# Altium schematic symbol library afra.SchLib: 135 symbols (part 2 of 4)
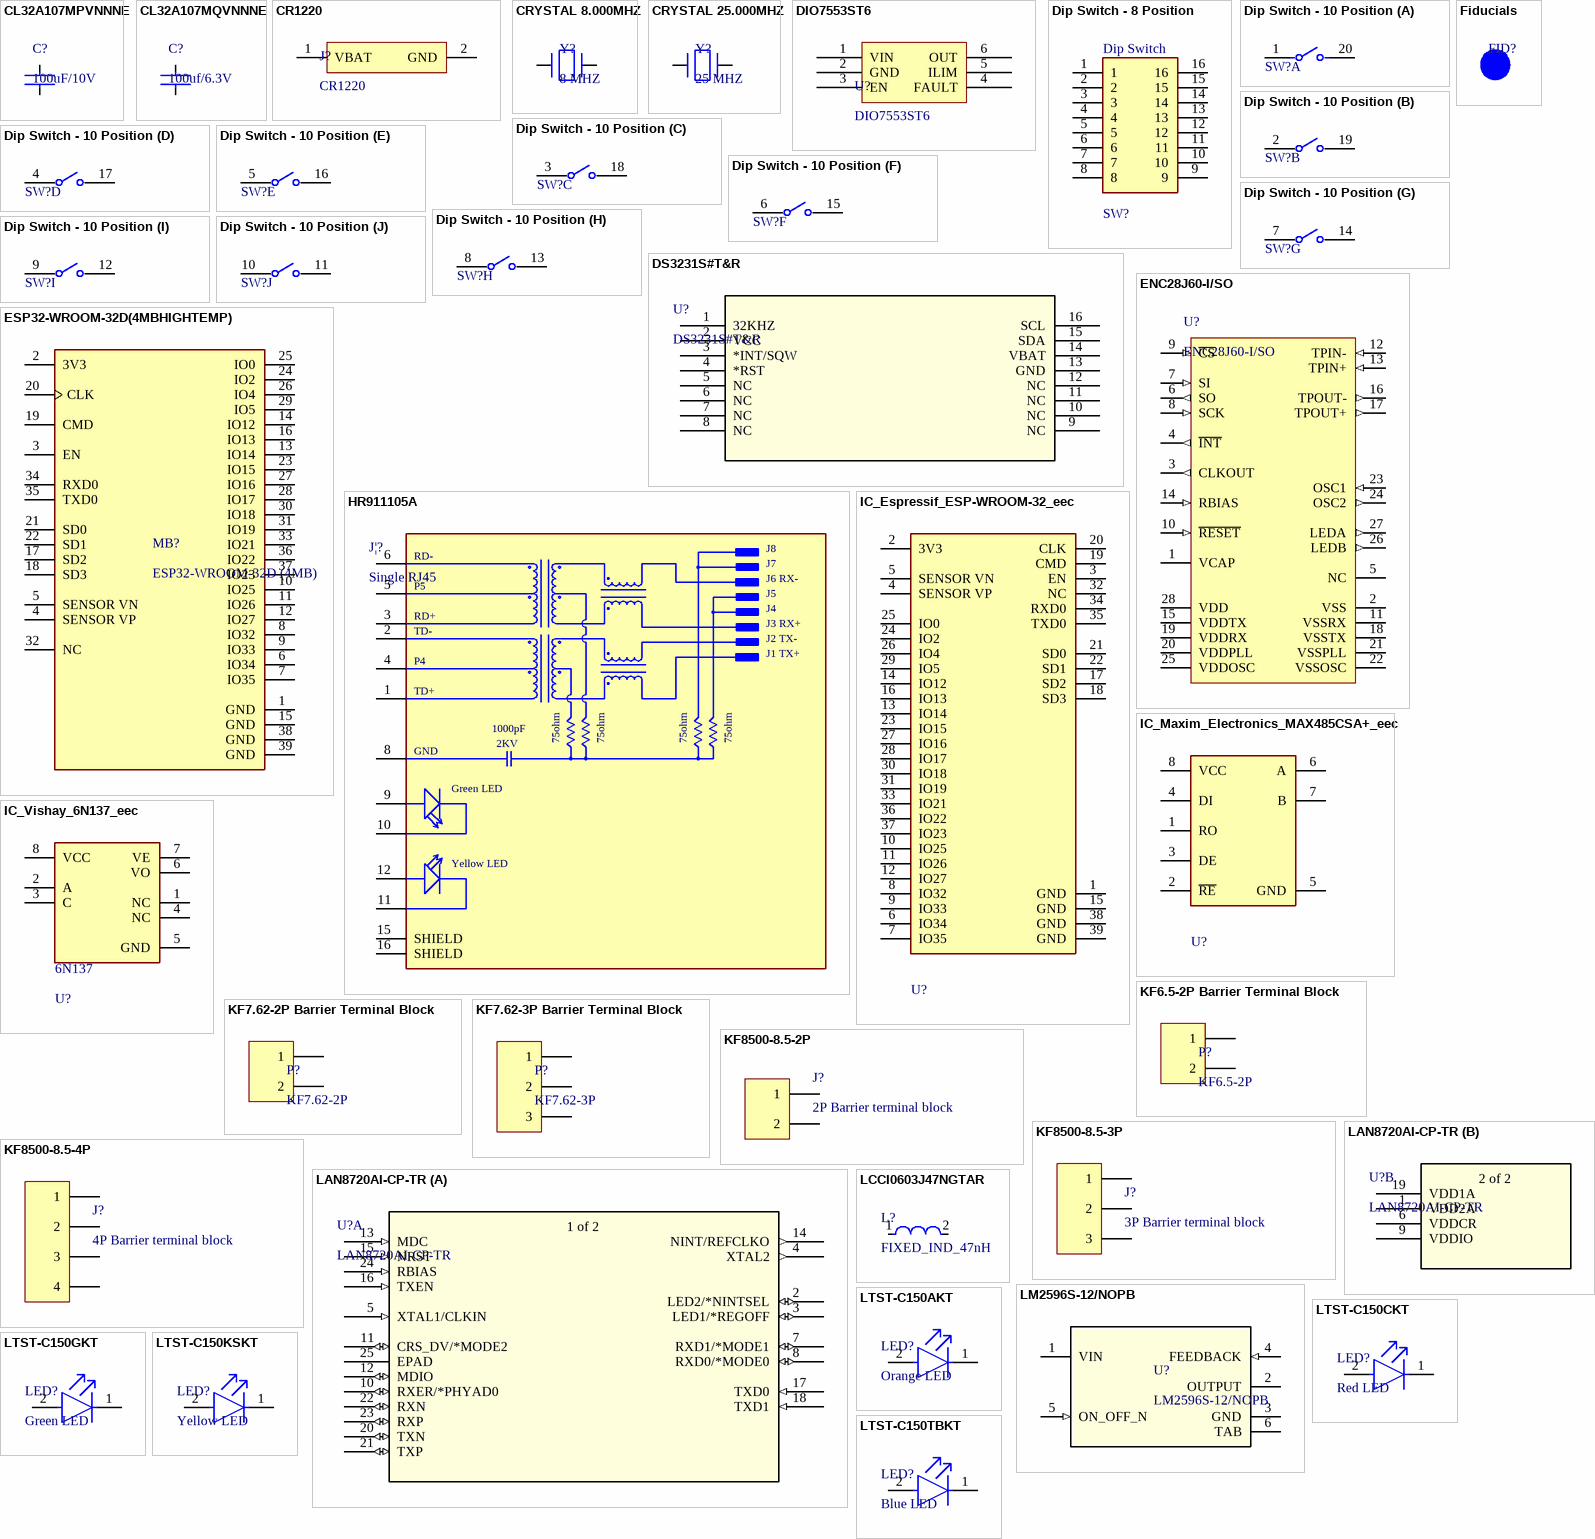
[diagram p5: symbols CL32A107MPVNNNE to LTST-C150TBKT]

## CRYSTAL 25.000MHZ
designator Y?, comment 25 MHZ
CRYSTAL 25.000MHZ 20PF THRU; Manufacturer: TXC; Manufacturer Part Number: 9B-8.000MBBK-B; Frequency Stability: 50ppm; Frequency: 8MHz; ESR (Equivalent Series Resistance): 80R; Supplier 1: Digi-Key; RoHS: Yes; Category: Crystals; Pricing 1: 1000=0.16000 (USD); Mount: Through Hole; Case/Package: Metal; Min Operating Temperature: -20°C; Max Operating Temperature: 70°C; Package Quantity: 1000; Frequency Tolerance: 50ppm; Load Capacitance: 20pF; Packaging: Bulk; Length: 0.453inch; Width: 0.197inch; Height: 0.145inch; ComponentLink1URL: https://datasheet.ciiva.com/6733/9b-6733750.pdf?src-supplier=Digi-Key; ComponentLink1Description: https://datasheet.ciiva.com/6733/9b-6733750.pdf?src-supplier=Digi-Key; ComponentLink2URL: https://datasheet.ciiva.com/29631/9b-29631174.pdf?src-supplier=Digi-Key; ComponentLink2Description: https://datasheet.ciiva.com/29631/9b-29631174.pdf?src-supplier=Digi-Key; Supplier Part Number 1: 887-2033-ND
footprint CTS_ATS080B_0
pins: 1, 2

## DIO7553ST6
designator U?
USB Power Switch
footprint SOT23-6
pins: 1 VIN, 2 GND, 3 EN, 4 FAULT, 5 ILIM, 6 OUT

## Dip Switch - 8 Position
designator SW?, comment Dip Switch
SWITCH ROCKER DIP SPST 150MA 30V, Dip Switch SPST Position Through Hole Rocker Actuator 150mA 30VDC; Supplier 1: Digi-Key; Supplier Part Number 1: GH7176-ND
footprint Dip Switch - 8 Position
pins: 1, 2, 3, 4, 5, 6, 7, 8, 9, 10, 11, 12, 13, 14, 15, 16

## Dip Switch - 10 Position
designator SW?, comment Dip Switch  (value not drawn)
SWITCH SLIDE DIP SPST 100MA 24V, Dip Switch SPST Position Through Hole Slide (Standard) Actuator 100mA 24VDC; Supplier 1: Digi-Key; Supplier Part Number 1: 1825360-6-ND
footprint Dip Switch - 10 Position
part A pins: 1, 20
part B pins: 2, 19
part C pins: 3, 18
part D pins: 4, 17
part E pins: 5, 16
part F pins: 6, 15
part G pins: 7, 14
part H pins: 8, 13
part I pins: 9, 12
part J pins: 10, 11

## DS3231S#T&R
designator U?
No Description Available; Mfr_Name: Maxim Integrated Products; Copyright: Copyright (C) 2022 Ultra Librarian. All rights reserved.; Manufacturer_Part_Number: DS3231S#T&R; RefDes: RefDes; Type: DEV
footprint 21-0042B_16_MXM
pins: 1 32KHZ, 2 VCC (power), 3 *INT/SQW, 4 *RST, 5 NC, 6 NC, 7 NC, 8 NC, 9 NC, 10 NC, 11 NC, 12 NC, 13 GND (power), 14 VBAT (power), 15 SDA, 16 SCL

## ENC28J60-I/SO
designator U?
Stand-Alone Ethernet Controller with SPI Interface, 28-Pin SOIC, Industrial Temperature; ComponentLink1Description: Manufacturer URL; ComponentLink2Description: Datasheet; DatasheetVersion: revC, Jan-2008; ComponentLink3URL: http://www.microchip.com/stellent/groups/techpub_sg/documents/packagingspec/en012702.pdf; ComponentLink3Description: Package Specification; ComponentLink1URL: http://www.microchip.com/; Code_JEDEC: MS-013; RevisionNote: URLs added.; PackageVersion: revBB, Aug-2009; PackageDescription: 28-Lead Plastic Small Outline (SO) - Wide 7.50mm Body [SOIC]; ComponentLink2URL: http://ww1.microchip.com/downloads/en/DeviceDoc/39662c.pdf; PackageReference: SOIC-SO28; PartNumber: ENC28J60-I/SO; Supplier 1: RSComponents; Supplier Part Number 1: 6988987
footprint SOIC-SO28_N
footprint SOIC-SO28_M (SOIC, 28-Leads, Body 17.9x7.5mm, Pitch 1.27mm, IPC Low Density)
footprint SOIC-SO28_L
pins: 1 VCAP (power), 2 VSS (power), 3 CLKOUT (out), 4 ~{INT} (out), 5 NC, 6 SO (out), 7 SI (in), 8 SCK (in), 9 ~{CS} (in), 10 ~{RESET} (in), 11 VSSRX (power), 12 TPIN- (in), 13 TPIN+ (in), 14 RBIAS (in), 15 VDDTX (power), 16 TPOUT- (out), 17 TPOUT+ (out), 18 VSSTX (power), 19 VDDRX (power), 20 VDDPLL (power), 21 VSSPLL (power), 22 VSSOSC (power), 23 OSC1 (in), 24 OSC2 (out), 25 VDDOSC (power), 26 LEDB (out), 27 LEDA (out), 28 VDD (power)

## ESP32-WROOM-32D(4MBHIGHTEMP)
designator MB?, comment ESP32-WROOM-32D (4MB)
Bluetooth, WiFi 802.11b/g/n, Bluetooth v4.2 +EDR, Class 1, 2 and 3 Transceiver Module 2.4GHz ~ 2.5GHz Integrated, Trace Surface Mount; Manufacturer: Espressif Systems; Manufacturer Part Number: ESP32-WROOM-32D(4MBHIGHTEMP); RoHS: No; Supplier 1: DigiKey; Supplier 2: Digi-Key; Supplier Part Number 1: 1965-ESP32-WROOM-32D(4MBHIGHTEMP)DKR-ND
footprint Espressif_Systems_0_MFG
pins: 1 GND, 2 3V3, 3 EN, 4 SENSOR VP, 5 SENSOR VN, 6 IO34, 7 IO35, 8 IO32, 9 IO33, 10 IO25, 11 IO26, 12 IO27, 13 IO14, 14 IO12, 15 GND, 16 IO13, 17 SD2, 18 SD3, 19 CMD, 20 CLK, 21 SD0, 22 SD1, 23 IO15, 24 IO2, 25 IO0, 26 IO4, 27 IO16, 28 IO17, 29 IO5, 30 IO18, 31 IO19, 32 NC, 33 IO21, 34 RXD0, 35 TXD0, 36 IO22, 37 IO23, 38 GND, 39 GND

## Fiducials
designator FID?, comment Fiducial marker  (value not drawn)

## HR911105A
designator J|?, comment Single RJ45
HR911105A Ethernet Interface Arduino Platform Evaluation Expansion Board; MF: DFRobot; Package: None; Availability: Unavailable; MP: HR911105A; Value: *; SnapEDA_Link: https://www.snapeda.com/parts/HR911105A/DFRobot/view-part/214807/?ref=snap; Price: None
footprint HANRUN_HR911105A
pins: 1 TD+, 2 TD-, 3 RD+, 4 P4, 5 P5, 6 RD-, 8 GND (power), 9 GA, 10 GC, 11 YC, 12 YA, 15 SHIELD, 16 SHIELD
text: J8; J7; J6 RX-; J5; J4; J3 RX+; J2 TX-; J1 TX+; 1000pF; 75ohm; 2KV; Green LED; Yellow LED

## IC_Espressif_ESP-WROOM-32_eec
designator U?, comment BLE/WIFI Module  (value not drawn)
IC SPRESSIF ESP32 BLUETOOTH WIFI Module; Manufacturer: Espressif; Part Number: ESP-WROOM-32; helpURL: https://upverter.com/upn/revision/247263e65b82b491/; ComponentLink2Description: Datasheet; Temperature: -40°C to +85°C; Package: MOD_SMT; Supplier 2: Mouser; Supplier 1: Digi-Key; ComponentLink1URL: https://upverter.com/upn/revision/247263e65b82b491/; Supplier Part Number 2: 485-3320; Supplier Part Number 1: 1188-1178-ND; ComponentLink1Description: Upverter; ComponentLink2URL: http://www.espressif.com/sites/default/files/documentation/esp-wroom-32_datasheet_en.pdf; RoHS: TRUE; Mouser Part Number: 485-3320; Temperature Range High: +85°C; Digikey Description: IC SPRESSIF ESP32 BLUETOOTH WIFI M; Digikey Part Number: 1188-1178-ND; Lead Free: yes; Temperature Range Low: -40°C
footprint Espressif_ESP-WROOM-32_0
pins: 1 GND, 2 3V3, 3 EN, 4 SENSOR VP, 5 SENSOR VN, 6 IO34, 7 IO35, 8 IO32, 9 IO33, 10 IO25, 11 IO26, 12 IO27, 13 IO14, 14 IO12, 15 GND, 16 IO13, 17 SD2, 18 SD3, 19 CMD, 20 CLK, 21 SD0, 22 SD1, 23 IO15, 24 IO2, 25 IO0, 26 IO4, 27 IO16, 28 IO17, 29 IO5, 30 IO18, 31 IO19, 32 NC, 33 IO21, 34 RXD0, 35 TXD0, 36 IO22, 37 IO23, 38 GND, 39 GND

## IC_Maxim_Electronics_MAX485CSA+_eec
designator U?, comment MAX485CSA+  (value not drawn)
IC TXRX RS485/RS422 LOWPWR 8SOIC; Manufacturer: Maxim Electronics; helpURL: https://upverter.com/upn/revision/9b9ac8077ab5223f/; ComponentLink2Description: Datasheet; Temperature: 0°C to +70°C; Package: SO8; Supplier 2: Mouser; Supplier 1: Digi-Key; ComponentLink1URL: https://upverter.com/upn/revision/9b9ac8077ab5223f/; Supplier Part Number 2: 700-MAX485CSA; Supplier Part Number 1: MAX485CSA+-ND; ComponentLink1Description: Upverter; ComponentLink2URL: https://datasheets.maximintegrated.com/en/ds/MAX1487-MAX491.pdf; RoHS: TRUE; Mouser Part Number: 700-MAX485CSA; Ipc Land Pattern Name: SOIC127P600X155-8; Temperature Range High: +70°C; Digikey Description: IC TXRX RS485/RS422 LOWPWR 8SOIC; Digikey Part Number: MAX485CSA+-ND; Lead Free: yes; Temperature Range Low: 0°C; Part Number: MAX485CSA+
footprint SOIC-8 (SOIC, 8-Leads, Body 4.9x3.9mm, Pitch 1.27mm, IPC Low Density)
pins: 1 RO, 2 ~{RE}, 3 DE, 4 DI, 5 GND, 6 A, 7 B, 8 VCC

## IC_Vishay_6N137_eec
designator U?  Part Number: 6N137
IC OPTOISO 5.3KV 1CH OPN DRAIN 8DIP; Manufacturer: Vishay; helpURL: https://upverter.com/upn/revision/90ff24e5d1aaa85f/; ComponentLink2Description: Datasheet; Temperature: -40°C to +100°C; Package: DIP8; Supplier 2: Mouser; Price: 1.00620280459; Supplier 1: Digi-Key; ComponentLink1URL: https://upverter.com/upn/revision/90ff24e5d1aaa85f/; Supplier Part Number 2: 782-6N137; Supplier Part Number 1: 751-1262-5-ND; ComponentLink1Description: Upverter; ComponentLink2URL: http://www.vishay.com/docs/84732/6n137.pdf; RoHS: TRUE; Mouser Part Number: 782-6N137; Ipc Land Pattern Name: DIP762W50P254L1016H425Q8; Temperature Range High: +100°C; Digikey Description: IC OPTOISO 5.3KV 1CH OPN DRAIN 8DIP; Digikey Part Number: 751-1262-5-ND; Lead Free: yes; Temperature Range Low: -40°C
footprint DIP_08
pins: 1 NC, 2 A, 3 C, 4 NC, 5 GND, 6 VO, 7 VE, 8 VCC

## KF6.5-2P Barrier Terminal Block
designator P?, comment KF6.5-2P
KF6.5 2P  Barrier Terminal Block, 11mm spacing barrier terminals with side expandable slot. The terminal accepts wire gauge of 22~12AWG. Connectors are available black PA66 material.
footprint KF6.5 2P 11mm
pins: 1, 2

## KF7.62-2P Barrier Terminal Block
designator P?, comment KF7.62-2P
KF7.62-2P Barrier Terminal Block, 7.62mm spacing barrier terminals with side expandable slot. The terminal accepts wire gauge of 22~12AWG. Connectors are available black PA66 material.
footprint KF7.62-2P Barrier Terminal Block
pins: 1, 2

## KF7.62-3P Barrier Terminal Block
designator P?, comment KF7.62-3P
KF7.62-3P Barrier Terminal Block, 7.62mm spacing barrier terminals with side expandable slot. The terminal accepts wire gauge of 22~12AWG. Connectors are available black PA66 material.
footprint KF7.62-3P Barrier Terminal Block
pins: 1, 2, 3

## KF8500-8.5-2P
designator J?, comment 2P Barrier terminal block
24A -40℃~+105℃ 450V Black Corner pin Double - Walled(Double) 12~22 Straight pin 2 1 8.5mm 2.5 P=8.5mm Barrier Terminal Blocks ROHS; Manufacturer: CiXi KaiFeng Electronics; Manufacturer Part Number: KF8500-8.5-2P; Supplier 1: LCSC; RoHS: No; Category: Uncategorized; Supplier Part Number 1: C707833
footprint KF8500-2P
pins: 1, 2

## KF8500-8.5-3P
designator J?, comment 3P Barrier terminal block
24A -40℃~+105℃ 450V Black Corner pin Double - Walled(Double) 12~22 Straight pin 3 1 8.5mm 2.5 P=8.5mm Barrier Terminal Blocks ROHS; Manufacturer: CiXi KaiFeng Electronics; Manufacturer Part Number: KF8500-8.5-3P; Supplier 1: LCSC; RoHS: No; Category: Uncategorized; Supplier Part Number 1: C707834
footprint KF8500-3P
pins: 1, 2, 3

## KF8500-8.5-4P
designator J?, comment 4P Barrier terminal block
24A -40℃~+105℃ 450V Black Corner pin Double - Walled(Double) 12~22 Straight pin 4 1 8.5mm 2.5 P=8.5mm Barrier Terminal Blocks ROHS; Manufacturer: CiXi KaiFeng Electronics; Manufacturer Part Number: KF8500-8.5-4P; Supplier 1: LCSC; RoHS: No; Category: Uncategorized; Supplier Part Number 1: C707835
footprint KF8500-4P
pins: 1, 2, 3, 4

## LAN8720AI-CP-TR
designator U?
No Description Available; Mfr_Name: Microchip; Copyright: Copyright (C) 2022 Ultra Librarian. All rights reserved.; Manufacturer_Part_Number: LAN8720AI-CP-TR; RefDes: RefDes; Type: DEV
footprint QFN24-6X6_MC_MCH
part A pins: 2 LED2/*NINTSEL (io), 3 LED1/*REGOFF (io), 4 XTAL2 (out), 5 XTAL1/CLKIN (in), 7 RXD1/*MODE1 (io), 8 RXD0/*MODE0 (io), 10 RXER/*PHYAD0 (io), 11 CRS_DV/*MODE2 (io), 12 MDIO (io), 13 MDC (in), 14 NINT/REFCLKO (out), 15 NRST (in), 16 TXEN (in), 17 TXD0 (in), 18 TXD1 (in), 20 TXN (io), 21 TXP (io), 22 RXN (io), 23 RXP (io), 24 RBIAS (in), 25 EPAD
part B pins: 1 VDD2A (power), 6 VDDCR (power), 9 VDDIO (power), 19 VDD1A (power)
part A text: 1 of 2
part B text: 2 of 2

## LCCI0603J47NGTAR
designator L?, comment FIXED_IND_47nH
FIXED IND 47NH 500MA 700 MOHM, Unshielded Multilayer Inductor 700mOhm Max 0603 (1608 Metric) -; Manufacturer: Kyocera AVX; Manufacturer Part Number: LCCI0603J47NGTAR; RoHS: Yes; Stock 1: 4000; Pricing 1: 1=0.10000, 10=0.07600, 25=0.06760, 50=0.05740, 100=0.05070, 250=0.04648, 500=0.04224, 1000=0.03549 (USD); Supplier 1: DigiKey; Supplier 2: Digi-Key; Supplier Part Number 1: 478-LCCI0603J47NGTARCT-ND; Supplier Part Number 2: 478-LCCI0603J47NGTARCT-ND
footprint 1206_Inductor
pins: 1, 2

## LM2596S-12/NOPB
designator U?
No Description Available; Mfr_Name: Texas Instruments; PartNumber: LM2596SX-ADJ/NOPB; Alternate_PartNumber: LM2596S-ADJ/NOPB; CompType: IC; Type: DEV; RefDes: RefDes; Copyright: Copyright (C) 2022 Ultra Librarian. All rights reserved.; Manufacturer_Part_Number: LM2596S-12/NOPB; PackageReference: KTT0005B; MountType: SMT; RoHS: Y; Manufacturer: Texas Instruments
footprint KTT0005B
pins: 1 VIN (power), 2 OUTPUT (power), 3 GND (power), 4 FEEDBACK (in), 5 ON_OFF_N (in), 6 TAB (power)

## LTST-C150AKT
designator LED?, comment Orange LED
Orange 3.2 x 1.6 x 1.1 mm (1206) 130° Water Clear 2.5 mcd 2.1 V LED SMT; Manufacturer: Vishay Lite-On; Manufacturer Part Number: LTST-C150AKT; Lens Color: Colorless; Power Rating: 100mW; Luminous Intensity: 6mcd; Lens Style: Clear,Diffused,Colorless,Rectangular; Forward Voltage: 2.1V; Forward Current: 30mA; Test Current: 10mA; Wavelength: 610nm; Number of LEDs: 1; Dominant Wavelength: 602nm; Reverse Voltage: 5V; Supplier 1: Arrow Electronics; RoHS: Yes; Category: LEDs; Stock 1: 2218; Pricing 1: 1=0.30420, 10=0.17180, 25=0.17020, 100=0.08060, 250=0.07980, 500=0.07320, 1000=0.05720, 3000=0.04990 (USD); Mount: Surface Mount; Case/Package: 1206; Number of Pins: 2; Color: Orange; Case Code (Metric): 3216; Case Code (Imperial): 1206; Min Operating Temperature: -55°C; Max Operating Temperature: 85°C; Packaging: Tape and Reel; Viewing Angle: 130°; Package Quantity: 1; Illumination Color: Orange; Lens Transparency: Clear; Number of Elements: 1; Power Dissipation: 100mW; Series: CHIPLED 1206; Length: 3.2mm; Width: 1.6mm; Height: 1.1mm; Depth: 1.6mm; Radiation Hardening: No; Lead Free: Lead Free; RoHS Compliant: Yes; ComponentLink1URL: https://datasheet.ciiva.com/2110/ltst-c150akt-2110240.pdf?src-supplier=Digi-Key; ComponentLink1Description: https://datasheet.ciiva.com/2110/ltst-c150akt-2110240.pdf?src-supplier=Digi-Key; ComponentLink2URL: https://datasheet.ciiva.com/11774/0900766b80dc025b-11774743.pdf?src-supplier=RSComponents; ComponentLink2Description: https://datasheet.ciiva.com/11774/0900766b80dc025b-11774743.pdf?src-supplier=RSComponents; ComponentLink3URL: https://datasheet.ciiva.com/15117/getdatasheetpartid-147499-15117854.pdf?src-supplier=Verical; ComponentLink3Description: https://datasheet.ciiva.com/15117/getdatasheetpartid-147499-15117854.pdf?src-supplier=Verical; ComponentLink4URL: https://datasheet.ciiva.com/2110/ltst-c150akt-2110241.pdf?src-supplier=Digi-Key; ComponentLink4Description: https://datasheet.ciiva.com/2110/ltst-c150akt-2110241.pdf?src-supplier=Digi-Key; ComponentLink5URL: https://datasheet.ciiva.com/2110/ltst-c150akt-2110242.pdf?src-supplier=Digi-Key; ComponentLink5Description: https://datasheet.ciiva.com/2110/ltst-c150akt-2110242.pdf?src-supplier=Digi-Key; ComponentLink6URL: https://datasheet.ciiva.com/16448/ltst-c150akt-16448581.pdf?src-supplier=Future+Electronics; ComponentLink6Description: https://datasheet.ciiva.com/16448/ltst-c150akt-16448581.pdf?src-supplier=Future+Electronics; Supplier Part Number 1: LTST-C150AKT
footprint SMD_LED_1206
pins: 1 C, 2 A

## LTST-C150CKT
designator LED?, comment Red LED
Red 3.2 x 1.6 x 1.1 mm 130° Water Clear 10 mcd 1.8 V Chip LED Surface Mount; Manufacturer: Vishay Lite-On; Manufacturer Part Number: LTST-C150CKT; Lens Color: Colorless; Lens Style: Diffused,Colorless,Clear,Rectangular; Dominant Wavelength: 638nm; Number of LEDs: 1; Forward Current: 40mA; Forward Voltage: 1.8V; Power Rating: 100mW; Luminous Intensity: 25mcd; Test Current: 10mA; Wavelength: 660nm; Reverse Voltage: 5V; Supplier 1: IBE SMT Equipment; RoHS: Yes; Category: LEDs; Stock 1: 5225; Pricing 1: 5225=0.05000 (USD); Mount: Surface Mount; Case/Package: 1206; Number of Pins: 2; Color: Red; Case Code (Metric): 3216; Case Code (Imperial): 1206; Min Operating Temperature: -55°C; Max Operating Temperature: 85°C; Viewing Angle: 130°; Packaging: Tape and Reel; Package Quantity: 1; Illumination Color: Red; Lens Transparency: Clear; Number of Elements: 1; Power Dissipation: 100mW; Series: CHIPLED 1206; Max Power Dissipation: 100mW; Length: 3.2mm; Width: 1.6mm; Height: 1.1mm; Depth: 1.6mm; Radiation Hardening: No; Lead Free: Lead Free; RoHS Compliant: Yes; ComponentLink1URL: https://datasheet.ciiva.com/2110/ltst-c150ckt-2110225.pdf?src-supplier=Digi-Key; ComponentLink1Description: https://datasheet.ciiva.com/2110/ltst-c150ckt-2110225.pdf?src-supplier=Digi-Key; ComponentLink2URL: https://datasheet.ciiva.com/11775/0900766b80dc025c-11775635.pdf?src-supplier=RSComponents; ComponentLink2Description: https://datasheet.ciiva.com/11775/0900766b80dc025c-11775635.pdf?src-supplier=RSComponents; ComponentLink3URL: https://datasheet.ciiva.com/19465/697733-19465844.pdf?src-supplier=Jameco; ComponentLink3Description: https://datasheet.ciiva.com/19465/697733-19465844.pdf?src-supplier=Jameco; ComponentLink4URL: https://datasheet.ciiva.com/16222/lite-on20ltst-c150ckt-16222610.pdf?src-supplier=Future+Electronics; ComponentLink4Description: https://datasheet.ciiva.com/16222/lite-on20ltst-c150ckt-16222610.pdf?src-supplier=Future+Electronics; ComponentLink5URL: https://datasheet.ciiva.com/15117/getdatasheetpartid-103928-15117444.pdf?src-supplier=Verical; ComponentLink5Description: https://datasheet.ciiva.com/15117/getdatasheetpartid-103928-15117444.pdf?src-supplier=Verical; ComponentLink6URL: https://datasheet.ciiva.com/2110/s-110-ltst-c150ckt-2110226.pdf?src-supplier=Digi-Key; ComponentLink6Description: https://datasheet.ciiva.com/2110/s-110-ltst-c150ckt-2110226.pdf?src-supplier=Digi-Key; ComponentLink7URL: https://datasheet.ciiva.com/2110/s-110-ltst-c150ckt-2110227.pdf?src-supplier=Digi-Key; ComponentLink7Description: https://datasheet.ciiva.com/2110/s-110-ltst-c150ckt-2110227.pdf?src-supplier=Digi-Key; Supplier Part Number 1: LTST-C150CKT
footprint SMD_LED_1206
pins: 1 C, 2 A

## LTST-C150GKT
designator LED?, comment Green LED
LED GREEN CLEAR 1206 SMD; Manufacturer: Vishay Lite-On; Manufacturer Part Number: LTST-C150GKT; Lens Color: Colorless; Lens Style: Diffused,Colorless,Rectangular,Clear; Number of LEDs: 1; Luminous Intensity: 6mcd; Forward Voltage: 2.1V; Test Current: 10mA; Wavelength: 565nm; Reverse Voltage: 5V; Forward Current: 30mA; Viewing Angle: 130°; Power Rating: 100mW; Dominant Wavelength: 569nm; Supplier 1: Rutronik; RoHS: Yes; Category: LEDs; Stock 1: 5; Pricing 1: 9000=0.04160, 18000=0.04120, 27000=0.04120 (USD); Mount: Surface Mount; Case/Package: 1206; Number of Pins: 2; Color: Green; Case Code (Metric): 3216; Case Code (Imperial): 1206; Min Operating Temperature: -55°C; Max Operating Temperature: 85°C; Packaging: Tape and Reel; Package Quantity: 1; Illumination Color: Green; Lens Transparency: Clear; Number of Elements: 1; Power Dissipation: 100mW; Series: CHIPLED 1206; Max Power Dissipation: 100mW; Length: 3.2mm; Width: 1.6mm; Height: 1.1mm; Depth: 1.6mm; Radiation Hardening: No; Lead Free: Lead Free; RoHS Compliant: Yes; ComponentLink1URL: https://datasheet.ciiva.com/2110/ltst-c150gkt-2110032.pdf?src-supplier=Digi-Key; ComponentLink1Description: https://datasheet.ciiva.com/2110/ltst-c150gkt-2110032.pdf?src-supplier=Digi-Key; ComponentLink2URL: https://datasheet.ciiva.com/11775/0900766b80dc0263-11775637.pdf?src-supplier=RSComponents; ComponentLink2Description: https://datasheet.ciiva.com/11775/0900766b80dc0263-11775637.pdf?src-supplier=RSComponents; ComponentLink3URL: https://datasheet.ciiva.com/12400/lite-on-ltst-c150gkt-187412-12400912.pdf?src-supplier=Mouser; ComponentLink3Description: https://datasheet.ciiva.com/12400/lite-on-ltst-c150gkt-187412-12400912.pdf?src-supplier=Mouser; ComponentLink4URL: https://datasheet.ciiva.com/4266/s-110-ltst-c150gkt-4266310.pdf?src-supplier=Arrow+Electronics; ComponentLink4Description: https://datasheet.ciiva.com/4266/s-110-ltst-c150gkt-4266310.pdf?src-supplier=Arrow+Electronics; ComponentLink5URL: https://datasheet.ciiva.com/16375/ltst-c150gkt-16375926.pdf?src-supplier=Future+Electronics; ComponentLink5Description: https://datasheet.ciiva.com/16375/ltst-c150gkt-16375926.pdf?src-supplier=Future+Electronics; ComponentLink6URL: https://datasheet.ciiva.com/15117/getdatasheetpartid-142080-15117739.pdf?src-supplier=Verical; ComponentLink6Description: https://datasheet.ciiva.com/15117/getdatasheetpartid-142080-15117739.pdf?src-supplier=Verical; Supplier Part Number 1: LED6762
footprint SMD_LED_1206
pins: 1 C, 2 A

## LTST-C150KSKT
designator LED?, comment Yellow LED
LED YELLOW CLEAR 1206 SMD; Manufacturer: Vishay Lite-On; Manufacturer Part Number: LTST-C150KSKT; Lens Color: Colorless; Viewing Angle: 130°; Forward Voltage: 2.4V; Luminous Intensity: 60mcd; Test Current: 20mA; Dominant Wavelength: 587nm; Wavelength: 588nm; Lens Style: Diffused,Colorless,Rectangular,Clear; Forward Current: 30mA; Power Rating: 75mW; Number of Elements: 1; Reverse Voltage: 5V; Supplier 1: Arrow Electronics; RoHS: Yes; Category: LEDs; Stock 1: 6000; Pricing 1: 3000=0.05730, 9000=0.05670, 24000=0.05620, 45000=0.05030 (USD); Mount: Surface Mount; Case/Package: 1206; Number of Pins: 2; Color: Yellow; Case Code (Metric): 3216; Case Code (Imperial): 1206; Min Operating Temperature: -55°C; Max Operating Temperature: 85°C; Packaging: Tape and Reel; Package Quantity: 1; Lens Transparency: Clear; Series: -; Illumination Color: Yellow; Power Dissipation: 75mW; Number of LEDs: 1; Length: 3.2mm; Width: 1.6mm; Height: 1.1mm; Depth: 1.6mm; Radiation Hardening: No; Lead Free: Lead Free; RoHS Compliant: Yes; ComponentLink1URL: https://datasheet.ciiva.com/19482/1260226-19482340.pdf?src-supplier=Jameco; ComponentLink1Description: https://datasheet.ciiva.com/19482/1260226-19482340.pdf?src-supplier=Jameco; ComponentLink2URL: https://datasheet.ciiva.com/11775/0900766b80dc0267-11775632.pdf?src-supplier=RSComponents; ComponentLink2Description: https://datasheet.ciiva.com/11775/0900766b80dc0267-11775632.pdf?src-supplier=RSComponents; ComponentLink3URL: https://datasheet.ciiva.com/12400/lite-on-ltst-c150kskt-187236-12400904.pdf?src-supplier=Mouser; ComponentLink3Description: https://datasheet.ciiva.com/12400/lite-on-ltst-c150kskt-187236-12400904.pdf?src-supplier=Mouser; ComponentLink4URL: https://datasheet.ciiva.com/4266/s-110-ltst-c150kskt-4266424.pdf?src-supplier=Arrow+Electronics; ComponentLink4Description: https://datasheet.ciiva.com/4266/s-110-ltst-c150kskt-4266424.pdf?src-supplier=Arrow+Electronics; ComponentLink5URL: https://datasheet.ciiva.com/16448/ltst-c150kskt-16448583.pdf?src-supplier=Future+Electronics; ComponentLink5Description: https://datasheet.ciiva.com/16448/ltst-c150kskt-16448583.pdf?src-supplier=Future+Electronics; ComponentLink6URL: https://datasheet.ciiva.com/2110/s-110-ltst-c150kskt-2110155.pdf?src-supplier=Digi-Key; ComponentLink6Description: https://datasheet.ciiva.com/2110/s-110-ltst-c150kskt-2110155.pdf?src-supplier=Digi-Key; Supplier Part Number 1: LTST-C150KSKT
footprint SMD_LED_1206
pins: 1 C, 2 A

## LTST-C150TBKT
designator LED?, comment Blue LED
LED BLUE CLEAR 1206 SMD; Manufacturer: Vishay Lite-On; Manufacturer Part Number: LTST-C150TBKT; Lens Color: Colorless; Forward Voltage: 3.8V; Luminous Intensity: 180mcd; Lens Style: Diffused,Colorless,Rectangular,Clear; Test Current: 20mA; Wavelength: 468nm; Dominant Wavelength: 475nm; Number of LEDs: 1; Viewing Angle: 130°; Reverse Voltage: 5V; Power Dissipation: 76mW; Supplier 1: Arrow Electronics; RoHS: Yes; Category: LEDs; Stock 1: 3000; Pricing 1: 3000=0.08660, 9000=0.08430, 24000=0.05890, 45000=0.05340 (USD); Mount: Surface Mount; Case/Package: 1206; Number of Pins: 2; Color: Blue; Case Code (Metric): 3216; Case Code (Imperial): 1206; Min Operating Temperature: -20°C; Max Operating Temperature: 80°C; Package Quantity: 1; Illumination Color: Blue; Packaging: Tape and Reel; Forward Current: 20mA; Lens Transparency: Clear; Series: -; Number of Elements: 1; Length: 3.2mm; Width: 1.6mm; Height: 1.1mm; Depth: 1.6mm; Radiation Hardening: No; Lead Free: Lead Free; RoHS Compliant: Yes; ComponentLink1URL: https://datasheet.ciiva.com/34303/1996102-34303714.pdf?src-supplier=Jameco; ComponentLink1Description: https://datasheet.ciiva.com/34303/1996102-34303714.pdf?src-supplier=Jameco; ComponentLink2URL: https://datasheet.ciiva.com/11774/0900766b80dc0268-11774376.pdf?src-supplier=RSComponents; ComponentLink2Description: https://datasheet.ciiva.com/11774/0900766b80dc0268-11774376.pdf?src-supplier=RSComponents; ComponentLink3URL: https://datasheet.ciiva.com/12400/lite-on-ltst-c150tbkt-187416-12400802.pdf?src-supplier=Mouser; ComponentLink3Description: https://datasheet.ciiva.com/12400/lite-on-ltst-c150tbkt-187416-12400802.pdf?src-supplier=Mouser; ComponentLink4URL: https://datasheet.ciiva.com/16388/ltst-c150tbkt-16388566.pdf?src-supplier=Future+Electronics; ComponentLink4Description: https://datasheet.ciiva.com/16388/ltst-c150tbkt-16388566.pdf?src-supplier=Future+Electronics; ComponentLink5URL: https://datasheet.ciiva.com/15117/getdatasheetpartid-141647-15117734.pdf?src-supplier=Verical; ComponentLink5Description: https://datasheet.ciiva.com/15117/getdatasheetpartid-141647-15117734.pdf?src-supplier=Verical; ComponentLink6URL: https://datasheet.ciiva.com/2110/s-110-ltst-c150tbkt0630-2110486.pdf?src-supplier=Digi-Key; ComponentLink6Description: https://datasheet.ciiva.com/2110/s-110-ltst-c150tbkt0630-2110486.pdf?src-supplier=Digi-Key; ComponentLink7URL: https://datasheet.ciiva.com/2110/s-110-ltst-c150tbkt0630-2110485.pdf?src-supplier=Digi-Key; ComponentLink7Description: https://datasheet.ciiva.com/2110/s-110-ltst-c150tbkt0630-2110485.pdf?src-supplier=Digi-Key; ComponentLink8URL: https://datasheet.ciiva.com/2110/s-110-ltst-c150tbkt0630-2110487.pdf?src-supplier=Digi-Key; ComponentLink8Description: https://datasheet.ciiva.com/2110/s-110-ltst-c150tbkt0630-2110487.pdf?src-supplier=Digi-Key; Supplier Part Number 1: LTST-C150TBKT
footprint SMD_LED_1206
pins: 1 C, 2 A

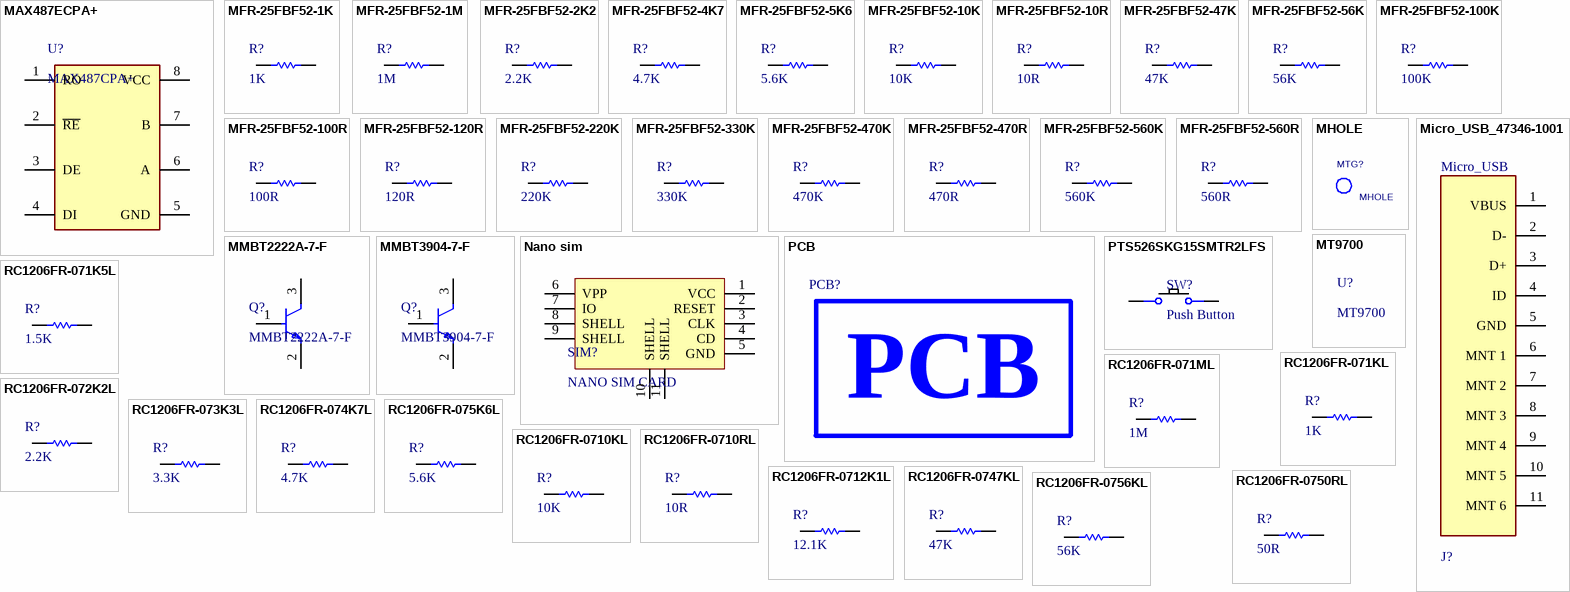
[diagram p2: symbols MAX487ECPA+ to RC1206FR-0756KL]

## MAX487ECPA+
designator U?, comment MAX487CPA+
Interface IC RS422/485 DIL-8, MAX487ECPA+, Maxim; Operating Supply Voltage: 5V; Number of Transmitters: 1; Logic Function: Transceiver; Data Rate: 256Kbps; Max Power Dissipation: 727mW; Output Voltage: 3V; Propagation Delay: 250ns; Max Supply Voltage: 5.25V; Min Supply Voltage: 4.75V; Nominal Supply Current: 250uA; Interface: RS-422,RS-485; Simplex/Duplex: Half Duplex; Supplier 1: Digi-Key; Manufacturer: Maxim; Manufacturer Part Number: MAX487ECPA+; RoHS: Yes; Category: Interface ICs; Stock 1: 285; Pricing 1: 1=4.05000, 10=3.63500, 25=3.43680, 100=3.05500 (USD); Mount: Through Hole; Case/Package: DIP; Number of Pins: 8; Min Operating Temperature: 0°C; Max Operating Temperature: 70°C; Packaging: Rail/Tube; Package Quantity: 50; Number of Receivers: 1; Number of Transceivers: 1; Series: -; Number of Drivers: 1; Supply Current: 250uA; Length: 9.91mm; Width: 7.87mm; Height: 4.45mm; Radiation Hardening: No; Lead Free: Lead Free; RoHS Compliant: Yes; REACH SVHC: No SVHC; ComponentLink1URL: https://datasheet.ciiva.com/16973/0900766b8078aed8-16973392.pdf?src-supplier=Allied+Electronics; ComponentLink1Description: https://datasheet.ciiva.com/16973/0900766b8078aed8-16973392.pdf?src-supplier=Allied+Electronics; ComponentLink2URL: https://datasheet.ciiva.com/16640/max1487e-max491e-16640614.pdf?src-supplier=Avnet+Europe; ComponentLink2Description: https://datasheet.ciiva.com/16640/max1487e-max491e-16640614.pdf?src-supplier=Avnet+Europe; ComponentLink3URL: https://datasheet.ciiva.com/8075/3976-8075401.pdf?src-supplier=Element14; ComponentLink3Description: https://datasheet.ciiva.com/8075/3976-8075401.pdf?src-supplier=Element14; ComponentLink4URL: https://datasheet.ciiva.com/14430/max1487e-max491e-14430329.pdf?src-supplier=Avnet; ComponentLink4Description: https://datasheet.ciiva.com/14430/max1487e-max491e-14430329.pdf?src-supplier=Avnet; ComponentLink5URL: https://datasheet.ciiva.com/14152/jxmax481e-491e-e-14152719.pdf?src-supplier=Distrelec; ComponentLink5Description: https://datasheet.ciiva.com/14152/jxmax481e-491e-e-14152719.pdf?src-supplier=Distrelec; ComponentLink6URL: https://datasheet.ciiva.com/1713/max1487e-max491e-1713146.pdf?src-supplier=Digi-Key; ComponentLink6Description: https://datasheet.ciiva.com/1713/max1487e-max491e-1713146.pdf?src-supplier=Digi-Key; ComponentLink7URL: https://datasheet.ciiva.com/4785/max1487e-max491e-4785914.pdf?src-supplier=Mouser; ComponentLink7Description: https://datasheet.ciiva.com/4785/max1487e-max491e-4785914.pdf?src-supplier=Mouser; Supplier Part Number 1: MAX487ECPA+-ND
footprint SOIC-8 (SOIC, 8-Leads, Body 4.9x3.9mm, Pitch 1.27mm, IPC Low Density)
pins: 1 RO, 2 ~{RE}, 3 DE, 4 DI, 5 GND, 6 A, 7 B, 8 VCC

## MFR-25FBF52-1K
designator R?, comment 1K
Res Metal Film 1K Ohm 1% 0.25W(1/4W) ±100ppm/°C AXL Automotive Bulk; Manufacturer: Yageo; Manufacturer Part Number: MFR-25FBF52-1K; Resistance: 1kR; Power Rating: 250mW; Voltage Rating: 250V; Voltage Rating (DC): 200V; Lead Diameter: 0.6mm; Supplier 1: Digi-Key; RoHS: Yes; Category: Through-Hole Resistors; Stock 1: 87196; Pricing 1: 1=0.10000, 10=0.08100, 25=0.05600, 50=0.04360, 100=0.03110, 250=0.02428, 500=0.01928, 1000=0.01369, 5000=0.01058 (USD); Mount: Through Hole; Case/Package: Axial; Min Operating Temperature: -55°C; Max Operating Temperature: 155°C; Tolerance: 1%; Packaging: Bulk; Termination: Axial; Package Quantity: 200; Resistor Type: Metal Film; Number of Terminations: 2; Temperature Coefficient: 100ppm/°C; Max Power Dissipation: 250mW; Series: MFR; Length: 0.248inch; Width: 6.3mm; RoHS Compliant: Yes; Lead Free: Lead Free; ComponentLink1URL: https://datasheet.ciiva.com/25646/yageolr-mfr-2013-25646206.pdf?src-supplier=Digi-Key; ComponentLink1Description: https://datasheet.ciiva.com/25646/yageolr-mfr-2013-25646206.pdf?src-supplier=Digi-Key; Supplier Part Number 1: 1.00KXBK-ND
footprint AXIAL 0.4
pins: 1, 2

## MFR-25FBF52-1M
designator R?, comment 1M
Metal Film Resistors 1M OHM 1/4W 1%; Manufacturer: Yageo; Manufacturer Part Number: MFR-25FBF52-1M; Resistance: 1MR; Power Rating: 250mW; Voltage Rating: 250V; Temperature Coefficient: 100ppm/°C; Supplier 1: Arrow Electronics; RoHS: Yes; Category: Through-Hole Resistors; Stock 1: 1902; Pricing 1: 1=0.11500, 10=0.07230, 25=0.06350, 50=0.05270, 100=0.02640, 250=0.02310, 500=0.01920, 1000=0.01220, 5000=0.00940 (USD); Case/Package: Axial; Min Operating Temperature: -55°C; Max Operating Temperature: 155°C; Packaging: Bulk; Tolerance: 1%; Termination: Axial; Resistor Type: Metal Film; Package Quantity: 200; Number of Terminations: 2; Max Power Dissipation: 250mW; Length: 0.248inch; ComponentLink1URL: http://www.mouser.com/ds/2/447/Yageo%20LR_MFR_2013-467719.pdf?src-supplier=Mouser; ComponentLink1Description: http://www.mouser.com/ds/2/447/Yageo%20LR_MFR_2013-467719.pdf?src-supplier=Mouser; ComponentLink2URL: http://www.yageo.com/documents/recent/Yageo%20LR_MFR_2013.pdf?src-supplier=Digi-Key; ComponentLink2Description: http://www.yageo.com/documents/recent/Yageo%20LR_MFR_2013.pdf?src-supplier=Digi-Key; Supplier Part Number 1: MFR-25FBF52-1M
footprint AXIAL 0.4
pins: 1, 2

## MFR-25FBF52-2K2
designator R?, comment 2.2K
General Type Metal Film Resistor 2.2kOhm 1/4W 1% Axial Bulk; Manufacturer: Yageo; Manufacturer Part Number: MFR-25FBF52-2K2; Resistance: 2.2kR; Power Rating: 250mW; Voltage Rating: 250V; Supplier 1: Digi-Key; RoHS: Yes; Category: Through-Hole Resistors; Stock 1: 9019; Pricing 1: 1=0.10000, 10=0.08100, 25=0.05600, 50=0.04360, 100=0.03110, 250=0.02428, 500=0.01928, 1000=0.01369, 5000=0.01058 (USD); Mount: Through Hole; Case/Package: Metal; Min Operating Temperature: -55°C; Max Operating Temperature: 155°C; Tolerance: 1%; Packaging: Bulk; Termination: Axial; ComponentLink1URL: http://www.mouser.com/ds/2/447/Yageo%20LR_MFR_2013-467719.pdf?src-supplier=Mouser; ComponentLink1Description: http://www.mouser.com/ds/2/447/Yageo%20LR_MFR_2013-467719.pdf?src-supplier=Mouser; Supplier Part Number 1: MFR-25FBF52-2K2-ND
footprint AXIAL 0.4
pins: 1, 2

## MFR-25FBF52-4K7
designator R?, comment 4.7K
General Type Metal Film Resistor 4.7kOhm 1/4W 1% Axial Bulk; Manufacturer: Yageo; Manufacturer Part Number: MFR-25FBF52-4K7; Voltage Rating: 250V; Voltage Rating (DC): 200V; Resistance: 4.7kR; Power Rating: 250mW; Supplier 1: Mouser; RoHS: Yes; Category: Through-Hole Resistors; Stock 1: 13891; Pricing 1: 1=0.13000, 10=0.08000, 25=0.06500, 50=0.06500, 100=0.03100, 250=0.02400, 500=0.02300, 1000=0.01600, 2500=0.01200, 10000=0.01200 (USD); Min Operating Temperature: -55°C; Max Operating Temperature: 155°C; Termination: Axial; Tolerance: 1%; Packaging: Bulk; ComponentLink1URL: http://www.mouser.com/ds/2/447/Yageo%20LR_MFR_2013-467719.pdf?src-supplier=Mouser; ComponentLink1Description: http://www.mouser.com/ds/2/447/Yageo%20LR_MFR_2013-467719.pdf?src-supplier=Mouser; Supplier Part Number 1: 603-MFR-25FBF52-4K7
footprint AXIAL 0.4
pins: 1, 2

## MFR-25FBF52-5K6
designator R?, comment 5.6K
General Type Metal Film Resistor 5.6kOhm 1/4W 1% Axial Bulk; Manufacturer: Yageo; Manufacturer Part Number: MFR-25FBF52-5K6; Resistance: 5.6kR; Power Rating: 250mW; Voltage Rating: 250V; Voltage Rating (DC): 200V; Supplier 1: Mouser; RoHS: Yes; Category: Through-Hole Resistors; Stock 1: 3213; Pricing 1: 1=0.12000, 10=0.08100, 50=0.05600, 100=0.03200, 1000=0.01400, 10000=0.01100 (USD); Case/Package: Metal; Min Operating Temperature: -55°C; Max Operating Temperature: 155°C; Tolerance: 1%; Packaging: Bulk; Termination: Axial; ComponentLink1URL: http://www.mouser.com/ds/2/447/Yageo%20LR_MFR_2013-467719.pdf?src-supplier=Mouser; ComponentLink1Description: http://www.mouser.com/ds/2/447/Yageo%20LR_MFR_2013-467719.pdf?src-supplier=Mouser; Supplier Part Number 1: 603-MFR-25FBF52-5K6
footprint AXIAL 0.4
pins: 1, 2

## MFR-25FBF52-10K
designator R?, comment 10K
Res Metal Film 10K Ohm 1% 0.25W(1/4W) ±100ppm/°C AXL Automotive Bulk; Manufacturer: Yageo; Manufacturer Part Number: MFR-25FBF52-10K; Resistance: 10kR; Power Rating: 250mW; Voltage Rating (DC): 200V; Voltage Rating: 250V; Supplier 1: Digi-Key; RoHS: Yes; Category: Through-Hole Resistors; Stock 1: 121444; Pricing 1: 1=0.10000, 10=0.08100, 25=0.05600, 50=0.04360, 100=0.03110, 250=0.02428, 500=0.01928, 1000=0.01369, 5000=0.01058 (USD); Case/Package: Axial; Min Operating Temperature: -55°C; Max Operating Temperature: 155°C; Tolerance: 1%; Packaging: Bulk; Package Quantity: 200; Termination: Axial; Resistor Type: Metal Film; Number of Terminations: 2; Max Power Dissipation: 250mW; Temperature Coefficient: 100ppm/°C; Series: MFR; Construction: Cylindrical; Length: 0.248inch; Lead Free: Lead Free; RoHS Compliant: Yes; Military Standard: Not; ComponentLink1URL: https://datasheet.ciiva.com/25646/yageolr-mfr-2013-25646207.pdf?src-supplier=Digi-Key; ComponentLink1Description: https://datasheet.ciiva.com/25646/yageolr-mfr-2013-25646207.pdf?src-supplier=Digi-Key; Supplier Part Number 1: 10.0KXBK-ND
footprint AXIAL 0.4
pins: 1, 2

## MFR-25FBF52-10R
designator R?, comment 10R
Res Metal Film 10 Ohm 1% 0.25W(1/4W) ±100ppm/C Conformal Coated AXL Automotive Bulk; Manufacturer: Yageo; Manufacturer Part Number: MFR-25FBF52-10R; Max Power Dissipation: 250mW; Temperature Coefficient: 100ppm/°C; Voltage Rating (DC): 200V; Voltage Rating: 250V; Lead Diameter: 0.6mm; Supplier 1: Arrow Electronics; RoHS: Yes; Category: Through-Hole Resistors; Stock 1: 3594; Pricing 1: 1=0.10000, 10=0.06190, 25=0.05490, 50=0.04230, 100=0.02540, 250=0.01910, 500=0.01840, 1000=0.01190, 5000=0.00950 (USD); Mount: Through Hole; Case/Package: Axial; Min Operating Temperature: -55°C; Max Operating Temperature: 155°C; Resistor Type: Metal Film; Packaging: Bulk; Number of Terminations: 2; Termination: Axial; Tolerance: 1%; Package Quantity: 200; Resistance: 10R; Power Rating: 250mW; Length: 0.248inch; Width: 6.3mm; Lead Free: Lead Free; ComponentLink1URL: https://datasheet.ciiva.com/25646/yageolr-mfr-2013-25646198.pdf?src-supplier=Digi-Key; ComponentLink1Description: https://datasheet.ciiva.com/25646/yageolr-mfr-2013-25646198.pdf?src-supplier=Digi-Key; Supplier Part Number 1: MFR-25FBF52-10R
footprint AXIAL 0.4
pins: 1, 2

## MFR-25FBF52-47K
designator R?, comment 47K
General Type Metal Film Resistor 47kOhm 1/4W 1% Axial Bulk; Manufacturer: Yageo; Manufacturer Part Number: MFR-25FBF52-47K; Resistance: 47kR; Power Rating: 250mW; Voltage Rating (DC): 200V; Voltage Rating: 250V; Temperature Coefficient: 100ppm/°C; Lead Diameter: 0.6mm; Supplier 1: Mouser; RoHS: Yes; Category: Through-Hole Resistors; Stock 1: 8547; Pricing 1: 1=0.13000, 10=0.08000, 50=0.06500, 100=0.03100, 1000=0.01600, 10000=0.01200 (USD); Mount: Through Hole; Min Operating Temperature: -55°C; Max Operating Temperature: 155°C; Tolerance: 1%; Packaging: Bulk; Termination: Axial; Resistor Type: Metal Film; Length: 2.4mm; Width: 6.3mm; ComponentLink1URL: https://datasheet.ciiva.com/5502/yageolr-mfr-2013-467719-5502600.pdf?src-supplier=Mouser; ComponentLink1Description: https://datasheet.ciiva.com/5502/yageolr-mfr-2013-467719-5502600.pdf?src-supplier=Mouser; Supplier Part Number 1: 603-MFR-25FBF52-47K
footprint AXIAL 0.4
pins: 1, 2

## MFR-25FBF52-56K
designator R?, comment 56K
General Type Metal Film Resistor 56kOhm 1/4W 1% Axial Bulk; Manufacturer: Yageo; Manufacturer Part Number: MFR-25FBF52-56K; Resistance: 56kR; Power Rating: 250mW; Voltage Rating: 250V; Supplier 1: Mouser; RoHS: Yes; Category: Through-Hole Resistors; Stock 1: 390; Pricing 1: 1=0.12000, 10=0.07900, 50=0.05500, 100=0.03100, 1000=0.01400, 10000=0.01000 (USD); Case/Package: Metal; Min Operating Temperature: -55°C; Max Operating Temperature: 155°C; Tolerance: 1%; Packaging: Bulk; Termination: Axial; ComponentLink1URL: http://www.mouser.com/ds/2/447/Yageo%20LR_MFR_2013-467719.pdf?src-supplier=Mouser; ComponentLink1Description: http://www.mouser.com/ds/2/447/Yageo%20LR_MFR_2013-467719.pdf?src-supplier=Mouser; Supplier Part Number 1: 603-MFR-25FBF52-56K
footprint AXIAL 0.4
pins: 1, 2

## MFR-25FBF52-100K
designator R?, comment 100K
Res General Purpose Metal Film 100k Ohm 1% 1/4W ±100ppm/°C Conformal Axial Bulk; Manufacturer: Yageo; Manufacturer Part Number: MFR-25FBF52-100K; Resistance: 100kR; Power Rating: 250mW; Voltage Rating (DC): 200V; Voltage Rating: 250V; Supplier 1: Digi-Key; RoHS: Yes; Category: Through-Hole Resistors; Stock 1: 136141; Pricing 1: 1=0.10000, 10=0.08100, 25=0.05600, 50=0.04360, 100=0.03110, 250=0.02428, 500=0.01928, 1000=0.01369, 5000=0.01058 (USD); Mount: Through Hole; Case/Package: Axial; Min Operating Temperature: -55°C; Max Operating Temperature: 155°C; Tolerance: 1%; Packaging: Bulk; Package Quantity: 200; Termination: Axial; Resistor Type: Metal Film; Number of Terminations: 2; Max Power Dissipation: 250mW; Temperature Coefficient: 100ppm/°C; Series: MFR; Construction: Cylindrical; Length: 0.248inch; RoHS Compliant: Yes; Military Standard: Not; ComponentLink1URL: https://datasheet.ciiva.com/25646/yageolr-mfr-2013-25646205.pdf?src-supplier=Digi-Key; ComponentLink1Description: https://datasheet.ciiva.com/25646/yageolr-mfr-2013-25646205.pdf?src-supplier=Digi-Key; Supplier Part Number 1: 100KXBK-ND
footprint AXIAL 0.4
pins: 1, 2

## MFR-25FBF52-100R
designator R?, comment 100R
Axial Resistor, 100 Ohm, +/- 1%, 0.25 W, -55 to 155 degC, 2-Pin THD, RoHS, Bulk; PartNumber: MFR-25FBF52-100R; Type (Resistor): Metal Film; Voltage Rating: 250 V; Resistance: 4.75 kohm; Power Rating: 250 mW; RoHSCompliant: true; ComponentLink1Description: Manufacturer URL; Min Operating Temperature: -55 degC; Package Quantity: 200; ComponentLink2Description: Datasheet; DatasheetVersion: Apr-13; Mount: Through Hole; ComponentLink1URL: http://www.yageo.com/; ComponentLink2URL: http://www.yageo.com/documents/recent/Yageo%20LR_MFR_2013.pdf; Packaging: Bulk; Length: 0.248 inch; Max Operating Temperature: 155 degC; PackageDescription: 2-Pin Axial Lead, Dia 2.4 mm, Body Length 6.3 mm; Tolerance: 1%; Case\Package: Axial; PackageReference: MFR-25
footprint AXIAL 0.4
pins: 1, 2

## MFR-25FBF52-120R
designator R?, comment 120R
General Type Metal Film Resistor 120Ohm 1/4W 1% Axial Bulk; Manufacturer: Yageo; Manufacturer Part Number: MFR-25FBF52-120R; Power Rating: 250mW; Voltage Rating: 250V; Temperature Coefficient: 100ppm/°C; Voltage Rating (DC): 200V; Lead Diameter: 0.6mm; Supplier 1: Mouser; RoHS: Yes; Category: Through-Hole Resistors; Stock 1: 8600; Pricing 1: 1=0.12000, 10=0.08100, 50=0.05600, 100=0.03200, 1000=0.01400, 10000=0.01100 (USD); Mount: Through Hole; Case/Package: Metal; Min Operating Temperature: -55°C; Max Operating Temperature: 155°C; Resistance: 120R; Tolerance: 1%; Packaging: Bulk; Termination: Axial; Resistor Type: Metal Film; Series: MFR; Length: 2.4mm; Width: 6.3mm; ComponentLink1URL: https://datasheet.ciiva.com/5505/yageolr-mfr-2013-467719-5505272.pdf?src-supplier=Mouser; ComponentLink1Description: https://datasheet.ciiva.com/5505/yageolr-mfr-2013-467719-5505272.pdf?src-supplier=Mouser; Supplier Part Number 1: 603-MFR-25FBF52-120R
footprint AXIAL 0.4
pins: 1, 2

## MFR-25FBF52-220K
designator R?, comment 220K
General Type Metal Film Resistor 220kOhm 1/4W 1% Axial Bulk; Manufacturer: Yageo; Manufacturer Part Number: MFR-25FBF52-220K; Resistance: 220kR; Power Rating: 250mW; Voltage Rating (DC): 200V; Voltage Rating: 250V; Temperature Coefficient: 100ppm/°C; Lead Diameter: 0.6mm; Supplier 1: Digi-Key; RoHS: Yes; Category: Through-Hole Resistors; Stock 1: 1175; Pricing 1: 1=0.10000, 10=0.08100, 25=0.05600, 50=0.04360, 100=0.03110, 250=0.02428, 500=0.01928, 1000=0.01369, 5000=0.01058 (USD); Mount: Through Hole; Case/Package: Metal; Min Operating Temperature: -55°C; Max Operating Temperature: 155°C; Tolerance: 1%; Packaging: Bulk; Termination: Axial; Resistor Type: Metal Film; Length: 2.4mm; Width: 6.3mm; ComponentLink1URL: http://www.yageo.com/documents/recent/Leaded-R_MFR_2011.pdf?src-supplier=Mouser; ComponentLink1Description: http://www.yageo.com/documents/recent/Leaded-R_MFR_2011.pdf?src-supplier=Mouser; ComponentLink2URL: http://www.yageo.com/NewPortal/yageodocoutput?fileName=/pdf/throughhole/Yageo_LR_MFR_2013.pdf&src-supplier=Digi-Key; ComponentLink2Description: http://www.yageo.com/NewPortal/yageodocoutput?fileName=/pdf/throughhole/Yageo_LR_MFR_2013.pdf&src-supplier=Digi-Key; Supplier Part Number 1: MFR-25FBF52-220K-ND
footprint AXIAL 0.4
pins: 1, 2

## MFR-25FBF52-330K
designator R?, comment 330K
Metal Film Resistors - Through Hole 330K OHM 1/4W 1%; Manufacturer: Yageo; Manufacturer Part Number: MFR-25FBF52-330K; Voltage Rating (DC): 200V; Resistance: 330kR; Power Rating: 250mW; Voltage Rating: 250V; Supplier 1: Mouser; RoHS: Yes; Category: Through-Hole Resistors; Stock 1: 9688; Pricing 1: 1=0.12000, 10=0.08100, 50=0.05600, 100=0.03200, 1000=0.01400, 10000=0.01100 (USD); Mount: Through Hole; Case/Package: Metal; Min Operating Temperature: -55°C; Max Operating Temperature: 155°C; Tolerance: 1%; Packaging: Bulk; Termination: Axial; ComponentLink1URL: http://www.mouser.com/ds/2/447/Yageo%20LR_MFR_2013-467719.pdf?src-supplier=Mouser; ComponentLink1Description: http://www.mouser.com/ds/2/447/Yageo%20LR_MFR_2013-467719.pdf?src-supplier=Mouser; ComponentLink2URL: http://www.yageo.com/NewPortal/yageodocoutput?fileName=/pdf/throughhole/Yageo_LR_MFR_2013.pdf&src-supplier=Digi-Key; ComponentLink2Description: http://www.yageo.com/NewPortal/yageodocoutput?fileName=/pdf/throughhole/Yageo_LR_MFR_2013.pdf&src-supplier=Digi-Key; Supplier Part Number 1: 603-MFR-25FBF52-330K
footprint AXIAL 0.4
pins: 1, 2

## MFR-25FBF52-470K
designator R?, comment 470K
RES MF 1/4W 1% AXIAL; Manufacturer: Yageo; Manufacturer Part Number: MFR-25FBF52-470K; Resistance: 470kR; Power Rating: 250mW; Voltage Rating (DC): 200V; Voltage Rating: 250V; Temperature Coefficient: 100ppm/°C; Lead Diameter: 0.6mm; Supplier 1: Mouser; RoHS: Yes; Category: Through-Hole Resistors; Stock 1: 8029; Pricing 1: 1=0.12000, 10=0.08100, 50=0.05600, 100=0.03200, 1000=0.01400, 10000=0.01100 (USD); Mount: Through Hole; Case/Package: Metal; Min Operating Temperature: -55°C; Max Operating Temperature: 155°C; Tolerance: 1%; Packaging: Bulk; Termination: Axial; Resistor Type: Metal Film; Series: MFR; Length: 2.4mm; Width: 6.3mm; ComponentLink1URL: https://datasheet.ciiva.com/5503/yageolr-mfr-2013-467719-5503333.pdf?src-supplier=Mouser; ComponentLink1Description: https://datasheet.ciiva.com/5503/yageolr-mfr-2013-467719-5503333.pdf?src-supplier=Mouser; Supplier Part Number 1: 603-MFR-25FBF52-470K
footprint AXIAL 0.4
pins: 1, 2

## MFR-25FBF52-470R
designator R?, comment 470R
General Type Metal Film Resistor 470Ohm 1/4W 1% Axial Bulk; Manufacturer: Yageo; Manufacturer Part Number: MFR-25FBF52-470R; Power Rating: 250mW; Voltage Rating: 250V; Voltage Rating (DC): 200V; Supplier 1: Mouser; RoHS: Yes; Category: Through-Hole Resistors; Stock 1: 4324; Pricing 1: 1=0.12000, 10=0.08100, 50=0.05600, 100=0.03200, 1000=0.01400, 10000=0.01100 (USD); Case/Package: Metal; Min Operating Temperature: -55°C; Max Operating Temperature: 155°C; Resistance: 470R; Tolerance: 1%; Packaging: Bulk; Termination: Axial; ComponentLink1URL: http://www.mouser.com/ds/2/447/Yageo%20LR_MFR_2013-467719.pdf?src-supplier=Mouser; ComponentLink1Description: http://www.mouser.com/ds/2/447/Yageo%20LR_MFR_2013-467719.pdf?src-supplier=Mouser; ComponentLink2URL: https://www.yageo.com/upload/media/product/products/datasheet/lr/Yageo_LR_MFR_1.pdf?src-supplier=Digi-Key; ComponentLink2Description: https://www.yageo.com/upload/media/product/products/datasheet/lr/Yageo_LR_MFR_1.pdf?src-supplier=Digi-Key; Supplier Part Number 1: 603-MFR-25FBF52-470R
footprint AXIAL 0.4
pins: 1, 2

## MFR-25FBF52-560K
designator R?, comment 560K
General Type Metal Film Resistor 560kOhm 1/4W 1% Axial Bulk; Manufacturer: Yageo; Manufacturer Part Number: MFR-25FBF52-560K; Voltage Rating (DC): 200V; Resistance: 560kR; Power Rating: 250mW; Voltage Rating: 250V; Supplier 1: Mouser; RoHS: Yes; Category: Resistors; Stock 1: 3110; Pricing 1: 1=0.12000, 10=0.08100, 50=0.05600, 100=0.03200, 1000=0.01400, 10000=0.01100 (USD); Min Operating Temperature: -55°C; Max Operating Temperature: 155°C; Tolerance: 1%; Packaging: Bulk; Termination: Axial; ComponentLink1URL: http://www.mouser.com/ds/2/447/Yageo%20LR_MFR_2013-467719.pdf?src-supplier=Mouser; ComponentLink1Description: http://www.mouser.com/ds/2/447/Yageo%20LR_MFR_2013-467719.pdf?src-supplier=Mouser; Supplier Part Number 1: 603-MFR-25FBF52-560K
footprint AXIAL 0.4
pins: 1, 2

## MFR-25FBF52-560R
designator R?, comment 560R
Metal Film Resistors - Through Hole 560 OHM 1/4W 1%; Manufacturer: Yageo; Manufacturer Part Number: MFR-25FBF52-560R; Power Rating: 250mW; Voltage Rating: 250V; Voltage Rating (DC): 200V; Temperature Coefficient: 100ppm/°C; Lead Diameter: 0.6mm; Supplier 1: Mouser; RoHS: Yes; Category: Through-Hole Resistors; Stock 1: 9521; Pricing 1: 1=0.12000, 10=0.08100, 50=0.05600, 100=0.03200, 1000=0.01400, 10000=0.01100 (USD); Mount: Through Hole; Min Operating Temperature: -55°C; Max Operating Temperature: 155°C; Resistance: 560R; Tolerance: 1%; Packaging: Bulk; Termination: Axial; Resistor Type: Metal Film; Length: 2.4mm; Width: 6.3mm; ComponentLink1URL: http://www.yageo.com/documents/recent/Leaded-R_MFR_2011.pdf?src-supplier=Mouser; ComponentLink1Description: http://www.yageo.com/documents/recent/Leaded-R_MFR_2011.pdf?src-supplier=Mouser; Supplier Part Number 1: 603-MFR-25FBF52-560R
footprint AXIAL 0.4
pins: 1, 2

## MHOLE
designator MTG?  (no BOM)
footprint MHOLE
pins: 1 TP

## Micro_USB_47346-1001
designator J?, comment Micro_USB
CONN RCPT USB2.0 MICRO B SMD R/A; Supplier 1: Digi-Key; Supplier Part Number 1: WM11228CT-ND
footprint Micro_USB_47346- 1001
pins: 1 VBUS (power), 2 D-, 3 D+, 4 ID, 5 GND (power), 6 MNT 1, 7 MNT 2, 8 MNT 3, 9 MNT 4, 10 MNT 5, 11 MNT 6